# Altium schematic symbol library STM32F407_CORE.SCHLIB: 28 symbols
Pins are listed as number, name and electrical type; pins without a type are passive.

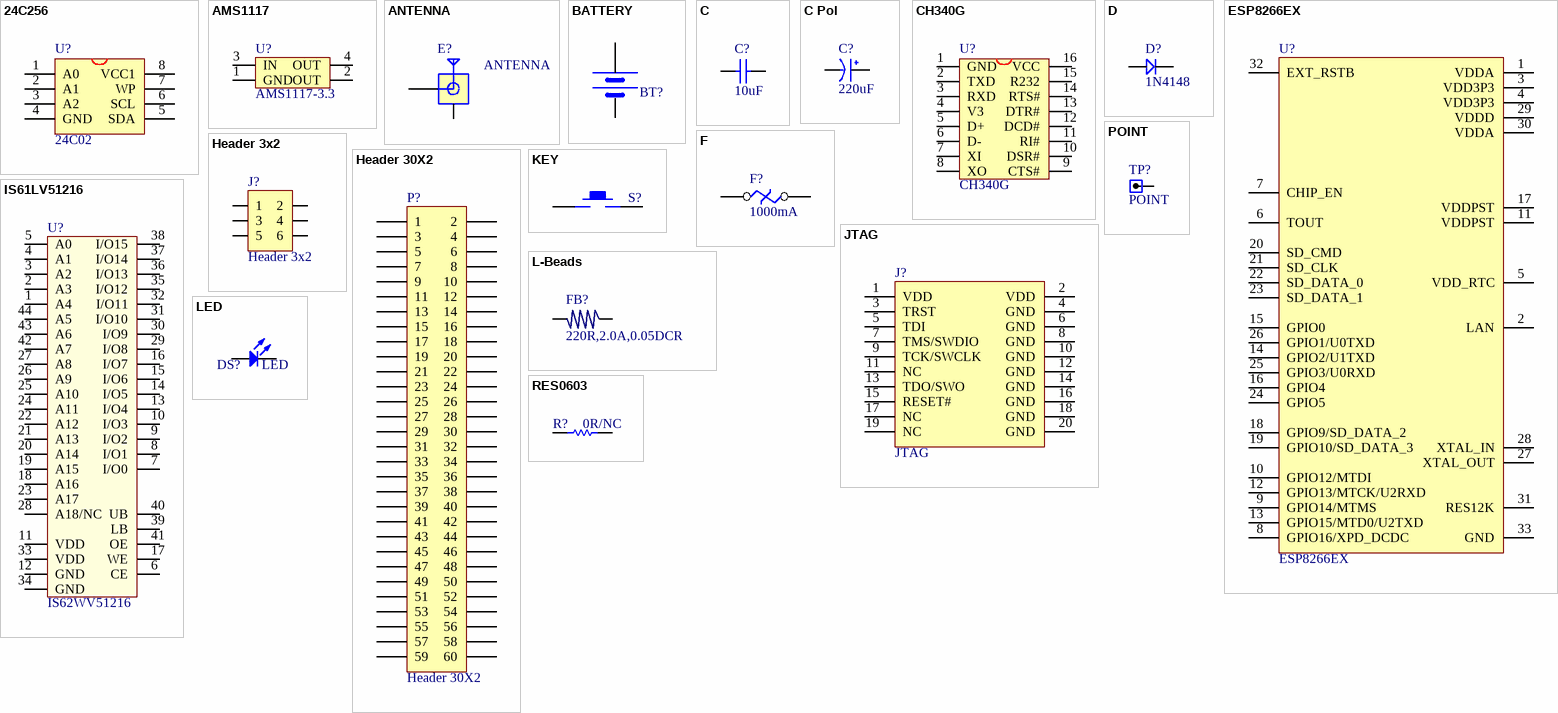
[diagram p0: symbols 24C256 to RES0603]

## 24C256
designator U?, comment 24C02
footprint SOP-8
pins: 1 A0, 2 A1, 3 A2, 4 GND, 5 SDA, 6 SCL, 7 WP, 8 VCC1

## AMS1117
designator U?, comment AMS1117-3.3
电源转换5Vto3.3V
footprint SOT-223
footprint SOT-89-3
pins: 1 GND, 2 OUT, 3 IN, 4 OUT

## ANTENNA
designator E?
footprint AN9520
footprint ANT2.4G
pins: 1, 2 (power)

## BATTERY
designator BT?  (value not drawn)
电池座
footprint SBAT-1220
pins: 1 VCC, 2 GND

## C
designator C?, comment 10uF
电容; Published: 8-Jun-2000; LatestRevisionDate: 17-Jul-2002; LatestRevisionNote: Re-released for DXP Platform.; PackageReference: RAD-0.3; Publisher: Altium Limited; PackageDescription: Radial Cap, Thru-Hole; 2 Leads; 0.3 in Pin Spacing
footprint C0603 (Chip Capacitor, Body 1.6x0.8mm, IPC High Density)
footprint C0805 (Chip Capacitor, Body 2.0x1.3mm, IPC High Density)
pins: 1, 2

## C Pol
designator C?, comment 220uF
极性电容
footprint CCAPE-D
footprint CCAPE-10X10
footprint DCC-10x20
footprint DCC-6x11
footprint TAJ-A (钽电容)
footprint TAJ-B (钽电容)
footprint TAJ-E (钽电容)
footprint DCC-8x12
pins: 1 VCC, 2 GND

## CH340G
designator U?
USB2UART
footprint SOP-16M
pins: 1 GND, 2 TXD, 3 RXD, 4 V3, 5 D+, 6 D-, 7 XI, 8 XO, 9 CTS#, 10 DSR#, 11 RI#, 12 DCD#, 13 DTR#, 14 RTS#, 15 R232, 16 VCC

## D
designator D?, comment 1N4148
通用二极管
footprint D1206
footprint SOD-123
footprint SOD-323
footprint DO-41
pins: 1, 2

## ESP8266EX
designator U?
footprint QFN-32-1 (QFN, 32-Leads, Body 5.00x5.00mm, Pitch 0.50mm, Thermal Pad 3.70x3.70mm, IPC Medium Density)
pins: 1 VDDA (power), 2 LAN (power), 3 VDD3P3 (power), 4 VDD3P3 (power), 5 VDD_RTC (power), 6 TOUT (power), 7 CHIP_EN (power), 8 GPIO16/XPD_DCDC (power), 9 GPIO14/MTMS (power), 10 GPIO12/MTDI (power), 11 VDDPST (power), 12 GPIO13/MTCK/U2RXD (power), 13 GPIO15/MTD0/U2TXD (power), 14 GPIO2/U1TXD (power), 15 GPIO0 (power), 16 GPIO4 (power), 17 VDDPST (power), 18 GPIO9/SD_DATA_2 (power), 19 GPIO10/SD_DATA_3 (power), 20 SD_CMD (power), 21 SD_CLK (power), 22 SD_DATA_0 (power), 23 SD_DATA_1 (power), 24 GPIO5 (power), 25 GPIO3/U0RXD (power), 26 GPIO1/U0TXD (power), 27 XTAL_OUT (power), 28 XTAL_IN (power), 29 VDDD (power), 30 VDDA (power), 31 RES12K (power), 32 EXT_RSTB (power), 33 GND (power)

## F
designator F?, comment 1000mA
熔断开关
footprint F0805 (0805保险)
footprint F-T30-300 (0805保险)
footprint F-RXEF500 (72V,5A)
footprint F-RXEF300 (72V,5A)
pins: 1, 2

## Header 3x2
designator J?
Header, 6-Pin; LatestRevisionDate: 17-Jul-2002; LatestRevisionNote: Re-released for DXP Platform.; Publisher: Altium Limited
footprint HDR2X3
pins: 1, 2, 3, 4, 5, 6

## Header 30X2
designator P?
Header, 60-Pin, Dual row; LatestRevisionDate: 17-Jul-2002; LatestRevisionNote: Re-released for DXP Platform.; Publisher: Altium Limited
footprint HDR2X30
pins: 1, 2, 3, 4, 5, 6, 7, 8, 9, 10, 11, 12, 13, 14, 15, 16, 17, 18, 19, 20, 21, 22, 23, 24, 25, 26, 27, 28, 29, 30, 31, 32, 33, 34, 35, 36, 37, 38, 39, 40, 41, 42, 43, 44, 45, 46, 47, 48, 49, 50, 51, 52, 53, 54, 55, 56, 57, 58, 59, 60

## IS61LV51216
designator U?, comment IS62WV51216
footprint TSOP-44
pins: 1 A4, 2 A3, 3 A2, 4 A1, 5 A0, 6 CE, 7 I/O0, 8 I/O1, 9 I/O2, 10 I/O3, 11 VDD, 12 GND, 13 I/O4, 14 I/O5, 15 I/O6, 16 I/O7, 17 WE, 18 A16, 19 A15, 20 A14, 21 A13, 22 A12, 23 A17, 24 A11, 25 A10, 26 A9, 27 A8, 28 A18/NC, 29 I/O8, 30 I/O9, 31 I/O10, 32 I/O11, 33 VDD, 34 GND, 35 I/O12, 36 I/O13, 37 I/O14, 38 I/O15, 39 LB, 40 UB, 41 OE, 42 A7, 43 A6, 44 A5

## JTAG
designator J?
footprint DC3-20P-W
pins: 1 VDD, 2 VDD, 3 TRST, 4 GND, 5 TDI, 6 GND, 7 TMS/SWDIO, 8 GND, 9 TCK/SWCLK, 10 GND, 11 NC, 12 GND, 13 TDO/SWO, 14 GND, 15 RESET#, 16 GND, 17 NC, 18 GND, 19 NC, 20 GND

## KEY
designator S?  (value not drawn)
普通轻触按钮
footprint KEY-12X12X7.5
footprint DSW-KEY-SOT-4_5x4_5 (尺寸大小4.5x4.5mm贴片)
footprint DSW-KFC-022S-H2.5
pins: 1, 2

## L-Beads
designator FB?, comment 220R,2.0A,0.05DCR
磁珠
footprint L0805 (电感)
pins: 1, 2

## LED
designator DS?
Typical RED, GREEN, YELLOW, AMBER GaAs LED; Published: 8-Jun-2000; LatestRevisionDate: 17-Jul-2002; LatestRevisionNote: Re-released for DXP Platform.; PackageDocument: Feb-2002; PackageReference: 3.2X1.6X1.1; Publisher: Altium Limited
footprint LED0805
footprint LED0603
footprint DLED-4MM
pins: 1 A, 2 K

## POINT
designator TP?
footprint TP12
pins: 1

## RES0603
designator R?, comment 0R/NC
电阻; Published: 8-Jun-2000; LatestRevisionDate: 17-Jul-2002; LatestRevisionNote: Re-released for DXP Platform.; PackageReference: AXIAL-0.3; Publisher: Altium Limited; PackageDescription: Axial Device, Thru-Hole; 2 Leads; 0.3 in Pin Spacing
footprint R0603 (Chip Resistor, Body 1.6x0.8mm, IPC High Density)
pins: 1, 2

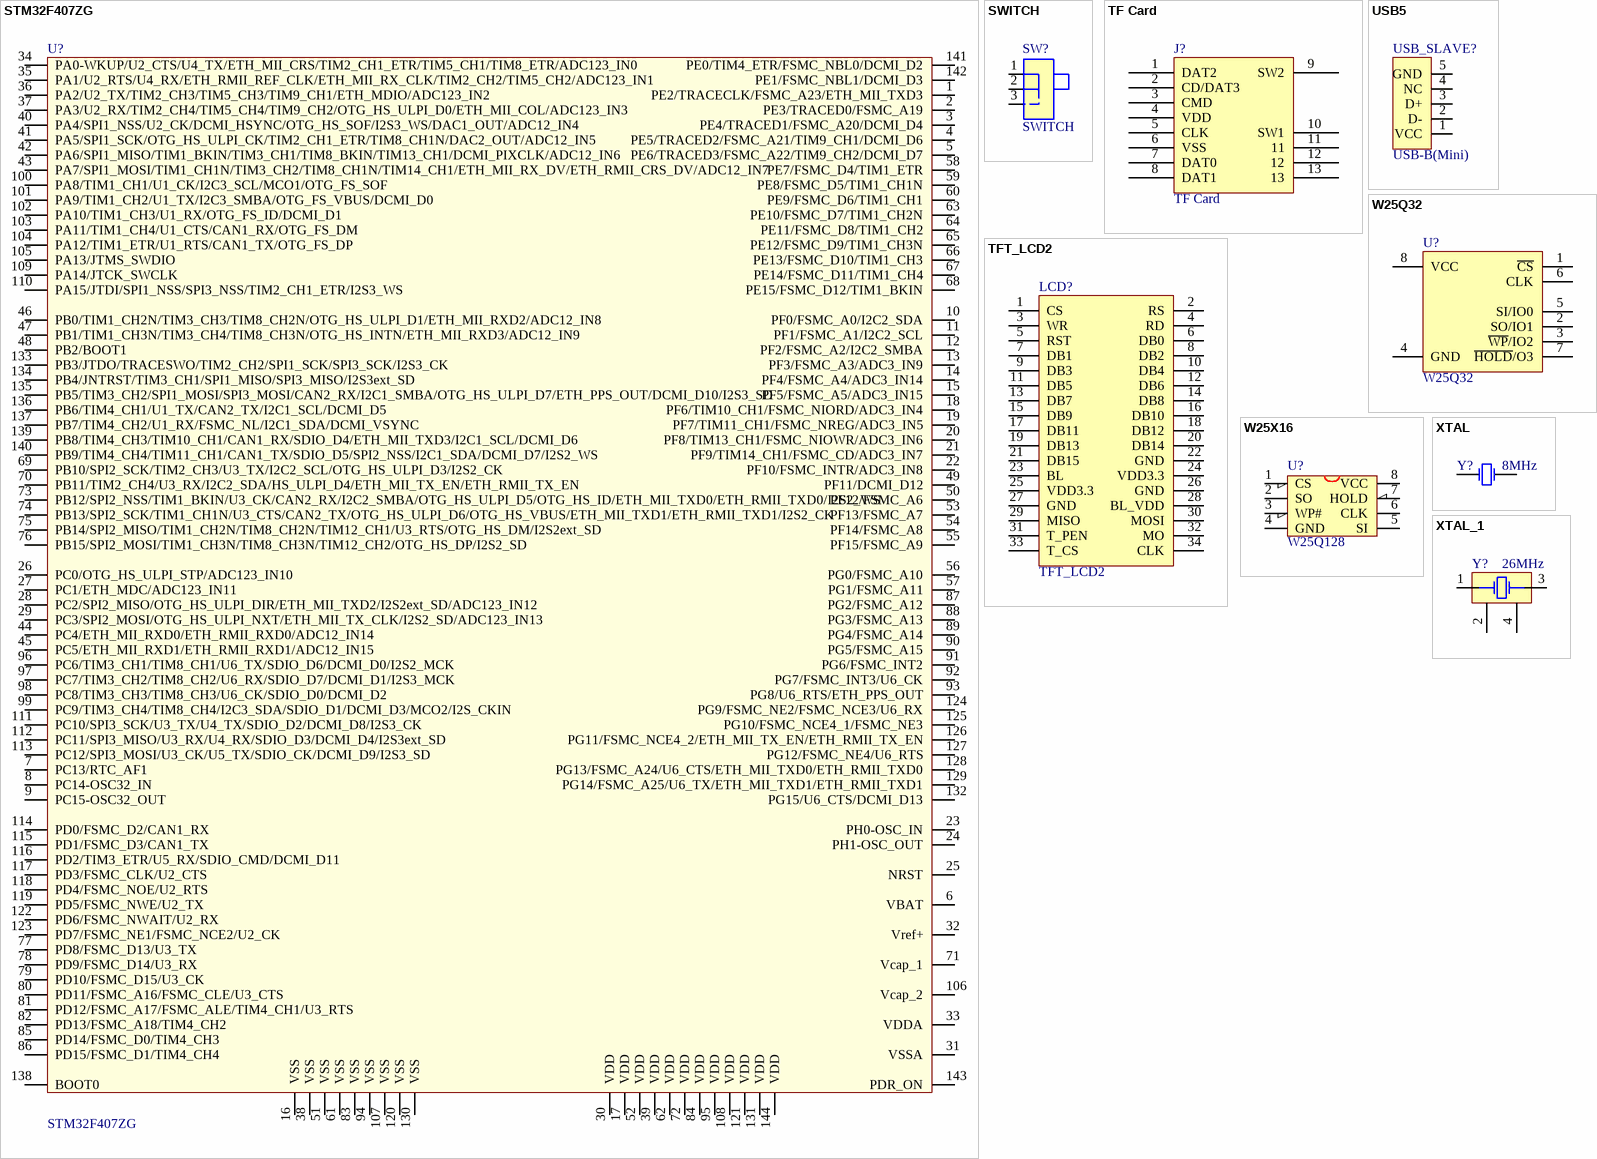
[diagram p1: symbols STM32F407ZG to XTAL_1]

## STM32F407ZG
designator U?
footprint LQFP-144
pins: 1 PE2/TRACECLK/FSMC_A23/ETH_MII_TXD3, 2 PE3/TRACED0/FSMC_A19, 3 PE4/TRACED1/FSMC_A20/DCMI_D4, 4 PE5/TRACED2/FSMC_A21/TIM9_CH1/DCMI_D6, 5 PE6/TRACED3/FSMC_A22/TIM9_CH2/DCMI_D7, 6 VBAT, 7 PC13/RTC_AF1, 8 PC14-OSC32_IN, 9 PC15-OSC32_OUT, 10 PF0/FSMC_A0/I2C2_SDA, 11 PF1/FSMC_A1/I2C2_SCL, 12 PF2/FSMC_A2/I2C2_SMBA, 13 PF3/FSMC_A3/ADC3_IN9, 14 PF4/FSMC_A4/ADC3_IN14, 15 PF5/FSMC_A5/ADC3_IN15, 16 VSS, 17 VDD, 18 PF6/TIM10_CH1/FSMC_NIORD/ADC3_IN4, 19 PF7/TIM11_CH1/FSMC_NREG/ADC3_IN5, 20 PF8/TIM13_CH1/FSMC_NIOWR/ADC3_IN6, 21 PF9/TIM14_CH1/FSMC_CD/ADC3_IN7, 22 PF10/FSMC_INTR/ADC3_IN8, 23 PH0-OSC_IN, 24 PH1-OSC_OUT, 25 NRST, 26 PC0/OTG_HS_ULPI_STP/ADC123_IN10, 27 PC1/ETH_MDC/ADC123_IN11, 28 PC2/SPI2_MISO/OTG_HS_ULPI_DIR/ETH_MII_TXD2/I2S2ext_SD/ADC123_IN12, 29 PC3/SPI2_MOSI/OTG_HS_ULPI_NXT/ETH_MII_TX_CLK/I2S2_SD/ADC123_IN13, 30 VDD, 31 VSSA, 32 Vref+, 33 VDDA, 34 PA0-WKUP/U2_CTS/U4_TX/ETH_MII_CRS/TIM2_CH1_ETR/TIM5_CH1/TIM8_ETR/ADC123_IN0, 35 PA1/U2_RTS/U4_RX/ETH_RMII_REF_CLK/ETH_MII_RX_CLK/TIM2_CH2/TIM5_CH2/ADC123_IN1, 36 PA2/U2_TX/TIM2_CH3/TIM5_CH3/TIM9_CH1/ETH_MDIO/ADC123_IN2, 37 PA3/U2_RX/TIM2_CH4/TIM5_CH4/TIM9_CH2/OTG_HS_ULPI_D0/ETH_MII_COL/ADC123_IN3, 38 VSS, 39 VDD, 40 PA4/SPI1_NSS/U2_CK/DCMI_HSYNC/OTG_HS_SOF/I2S3_WS/DAC1_OUT/ADC12_IN4, 41 PA5/SPI1_SCK/OTG_HS_ULPI_CK/TIM2_CH1_ETR/TIM8_CH1N/DAC2_OUT/ADC12_IN5, 42 PA6/SPI1_MISO/TIM1_BKIN/TIM3_CH1/TIM8_BKIN/TIM13_CH1/DCMI_PIXCLK/ADC12_IN6, 43 PA7/SPI1_MOSI/TIM1_CH1N/TIM3_CH2/TIM8_CH1N/TIM14_CH1/ETH_MII_RX_DV/ETH_RMII_CRS_DV/ADC12_IN7, 44 PC4/ETH_MII_RXD0/ETH_RMII_RXD0/ADC12_IN14, 45 PC5/ETH_MII_RXD1/ETH_RMII_RXD1/ADC12_IN15, 46 PB0/TIM1_CH2N/TIM3_CH3/TIM8_CH2N/OTG_HS_ULPI_D1/ETH_MII_RXD2/ADC12_IN8, 47 PB1/TIM1_CH3N/TIM3_CH4/TIM8_CH3N/OTG_HS_INTN/ETH_MII_RXD3/ADC12_IN9, 48 PB2/BOOT1, 49 PF11/DCMI_D12, 50 PF12/FSMC_A6, 51 VSS, 52 VDD, 53 PF13/FSMC_A7, 54 PF14/FSMC_A8, 55 PF15/FSMC_A9, 56 PG0/FSMC_A10, 57 PG1/FSMC_A11, 58 PE7/FSMC_D4/TIM1_ETR, 59 PE8/FSMC_D5/TIM1_CH1N, 60 PE9/FSMC_D6/TIM1_CH1, 61 VSS, 62 VDD, 63 PE10/FSMC_D7/TIM1_CH2N, 64 PE11/FSMC_D8/TIM1_CH2, 65 PE12/FSMC_D9/TIM1_CH3N, 66 PE13/FSMC_D10/TIM1_CH3, 67 PE14/FSMC_D11/TIM1_CH4, 68 PE15/FSMC_D12/TIM1_BKIN, 69 PB10/SPI2_SCK/TIM2_CH3/U3_TX/I2C2_SCL/OTG_HS_ULPI_D3/I2S2_CK, 70 PB11/TIM2_CH4/U3_RX/I2C2_SDA/HS_ULPI_D4/ETH_MII_TX_EN/ETH_RMII_TX_EN, 71 Vcap_1, 72 VDD, 73 PB12/SPI2_NSS/TIM1_BKIN/U3_CK/CAN2_RX/I2C2_SMBA/OTG_HS_ULPI_D5/OTG_HS_ID/ETH_MII_TXD0/ETH_RMII_TXD0/I2S2_WS, 74 PB13/SPI2_SCK/TIM1_CH1N/U3_CTS/CAN2_TX/OTG_HS_ULPI_D6/OTG_HS_VBUS/ETH_MII_TXD1/ETH_RMII_TXD1/I2S2_CK, 75 PB14/SPI2_MISO/TIM1_CH2N/TIM8_CH2N/TIM12_CH1/U3_RTS/OTG_HS_DM/I2S2ext_SD, 76 PB15/SPI2_MOSI/TIM1_CH3N/TIM8_CH3N/TIM12_CH2/OTG_HS_DP/I2S2_SD, 77 PD8/FSMC_D13/U3_TX, 78 PD9/FSMC_D14/U3_RX, 79 PD10/FSMC_D15/U3_CK, 80 PD11/FSMC_A16/FSMC_CLE/U3_CTS, 81 PD12/FSMC_A17/FSMC_ALE/TIM4_CH1/U3_RTS, 82 PD13/FSMC_A18/TIM4_CH2, 83 VSS, 84 VDD, 85 PD14/FSMC_D0/TIM4_CH3, 86 PD15/FSMC_D1/TIM4_CH4, 87 PG2/FSMC_A12, 88 PG3/FSMC_A13, 89 PG4/FSMC_A14, 90 PG5/FSMC_A15, 91 PG6/FSMC_INT2, 92 PG7/FSMC_INT3/U6_CK, 93 PG8/U6_RTS/ETH_PPS_OUT, 94 VSS, 95 VDD, 96 PC6/TIM3_CH1/TIM8_CH1/U6_TX/SDIO_D6/DCMI_D0/I2S2_MCK, 97 PC7/TIM3_CH2/TIM8_CH2/U6_RX/SDIO_D7/DCMI_D1/I2S3_MCK, 98 PC8/TIM3_CH3/TIM8_CH3/U6_CK/SDIO_D0/DCMI_D2, 99 PC9/TIM3_CH4/TIM8_CH4/I2C3_SDA/SDIO_D1/DCMI_D3/MCO2/I2S_CKIN, 100 PA8/TIM1_CH1/U1_CK/I2C3_SCL/MCO1/OTG_FS_SOF, 101 PA9/TIM1_CH2/U1_TX/I2C3_SMBA/OTG_FS_VBUS/DCMI_D0, 102 PA10/TIM1_CH3/U1_RX/OTG_FS_ID/DCMI_D1, 103 PA11/TIM1_CH4/U1_CTS/CAN1_RX/OTG_FS_DM, 104 PA12/TIM1_ETR/U1_RTS/CAN1_TX/OTG_FS_DP, 105 PA13/JTMS_SWDIO, 106 Vcap_2, 107 VSS, 108 VDD, 109 PA14/JTCK_SWCLK, 110 PA15/JTDI/SPI1_NSS/SPI3_NSS/TIM2_CH1_ETR/I2S3_WS, 111 PC10/SPI3_SCK/U3_TX/U4_TX/SDIO_D2/DCMI_D8/I2S3_CK, 112 PC11/SPI3_MISO/U3_RX/U4_RX/SDIO_D3/DCMI_D4/I2S3ext_SD, 113 PC12/SPI3_MOSI/U3_CK/U5_TX/SDIO_CK/DCMI_D9/I2S3_SD, 114 PD0/FSMC_D2/CAN1_RX, 115 PD1/FSMC_D3/CAN1_TX, 116 PD2/TIM3_ETR/U5_RX/SDIO_CMD/DCMI_D11, 117 PD3/FSMC_CLK/U2_CTS, 118 PD4/FSMC_NOE/U2_RTS, 119 PD5/FSMC_NWE/U2_TX, 120 VSS, 121 VDD, 122 PD6/FSMC_NWAIT/U2_RX, 123 PD7/FSMC_NE1/FSMC_NCE2/U2_CK, 124 PG9/FSMC_NE2/FSMC_NCE3/U6_RX, 125 PG10/FSMC_NCE4_1/FSMC_NE3, 126 PG11/FSMC_NCE4_2/ETH_MII_TX_EN/ETH_RMII_TX_EN, 127 PG12/FSMC_NE4/U6_RTS, 128 PG13/FSMC_A24/U6_CTS/ETH_MII_TXD0/ETH_RMII_TXD0, 129 PG14/FSMC_A25/U6_TX/ETH_MII_TXD1/ETH_RMII_TXD1, 130 VSS, 131 VDD, 132 PG15/U6_CTS/DCMI_D13, 133 PB3/JTDO/TRACESWO/TIM2_CH2/SPI1_SCK/SPI3_SCK/I2S3_CK, 134 PB4/JNTRST/TIM3_CH1/SPI1_MISO/SPI3_MISO/I2S3ext_SD, 135 PB5/TIM3_CH2/SPI1_MOSI/SPI3_MOSI/CAN2_RX/I2C1_SMBA/OTG_HS_ULPI_D7/ETH_PPS_OUT/DCMI_D10/I2S3_SD, 136 PB6/TIM4_CH1/U1_TX/CAN2_TX/I2C1_SCL/DCMI_D5, 137 PB7/TIM4_CH2/U1_RX/FSMC_NL/I2C1_SDA/DCMI_VSYNC, 138 BOOT0, 139 PB8/TIM4_CH3/TIM10_CH1/CAN1_RX/SDIO_D4/ETH_MII_TXD3/I2C1_SCL/DCMI_D6, 140 PB9/TIM4_CH4/TIM11_CH1/CAN1_TX/SDIO_D5/SPI2_NSS/I2C1_SDA/DCMI_D7/I2S2_WS, 141 PE0/TIM4_ETR/FSMC_NBL0/DCMI_D2, 142 PE1/FSMC_NBL1/DCMI_D3, 143 PDR_ON, 144 VDD

## SWITCH
designator SW?
footprint SW-SS12F23
footprint SW-SS12F44
footprint SW-SK12D07VG4
footprint SW-SS12D07VG4
pins: 1, 2, 3

## TF Card
designator J?
footprint TF-Card (TF存储卡)
pins: 1 DAT2, 2 CD/DAT3, 3 CMD, 4 VDD, 5 CLK, 6 VSS, 7 DAT0, 8 DAT1, 9 SW2, 10 SW1, 11, 12, 13

## TFT_LCD2
designator LCD?
footprint TFT-HDR2X17
pins: 1 CS, 2 RS, 3 WR, 4 RD, 5 RST, 6 DB0, 7 DB1, 8 DB2, 9 DB3, 10 DB4, 11 DB5, 12 DB6, 13 DB7, 14 DB8, 15 DB9, 16 DB10, 17 DB11, 18 DB12, 19 DB13, 20 DB14, 21 DB15, 22 GND, 23 BL, 24 VDD3.3, 25 VDD3.3, 26 GND, 27 GND, 28 BL_VDD, 29 MISO, 30 MOSI, 31 T_PEN, 32 MO, 33 T_CS, 34 CLK

## USB5
designator USB_SLAVE?, comment USB-B(Mini)
footprint USB-V3
footprint USB-MicroUSB (MicroUSB)
pins: 1 VCC, 2 D-, 3 D+, 4 NC, 5 GND

## W25Q32
designator U?
footprint SOIC-8
pins: 1 ~{CS} (power), 2 SO/IO1 (power), 3 ~{WP}/IO2 (power), 4 GND (power), 5 SI/IO0 (power), 6 CLK (power), 7 ~{HOLD}/O3 (power), 8 VCC (power)

## W25X16
designator U?, comment W25Q128
W25X16;SST25VF016;MX25L1605
footprint SOIC-8 (SOIC)
pins: 1 CS, 2 SO, 3 WP#, 4 GND, 5 SI, 6 CLK, 7 HOLD, 8 VCC

## XTAL
designator Y?, comment 8MHz
Crystal Oscillator; Published: 8-Jun-2000; LatestRevisionDate: 17-Jul-2002; LatestRevisionNote: Re-released for DXP Platform.; Publisher: Altium Limited
simulation model XTAL (Spice Subcircuit)
footprint X-DT-26
footprint X-HC49-SMT (贴片晶振)
footprint X-HC49S
footprint X-MC146
footprint X-NX5032GA (贴片封装晶振)
pins: 1 OSC1, 2 OSC2

## XTAL_1
designator Y?, comment 26MHz
Crystal Oscillator; Published: 8-Jun-2000; LatestRevisionDate: 17-Jul-2002; LatestRevisionNote: Re-released for DXP Platform.; Publisher: Altium Limited
simulation model XTAL (Spice Subcircuit)
footprint X-TSX-3225 (26MHz Crystal)
pins: 1, 2, 3, 4